# Altium footprint library CYP-PVX20_N.PcbLib: 1 footprints
Each footprint in its own frame and in the unit in brackets; x right, y up, seen from the top. Pads: shape width x height; smd on the part's side, far side on the other; paste and mask are expansions set on the pad; w line width, h text height; cw(c..) or ccw(c..) is an arc to the next point about the centre after c.
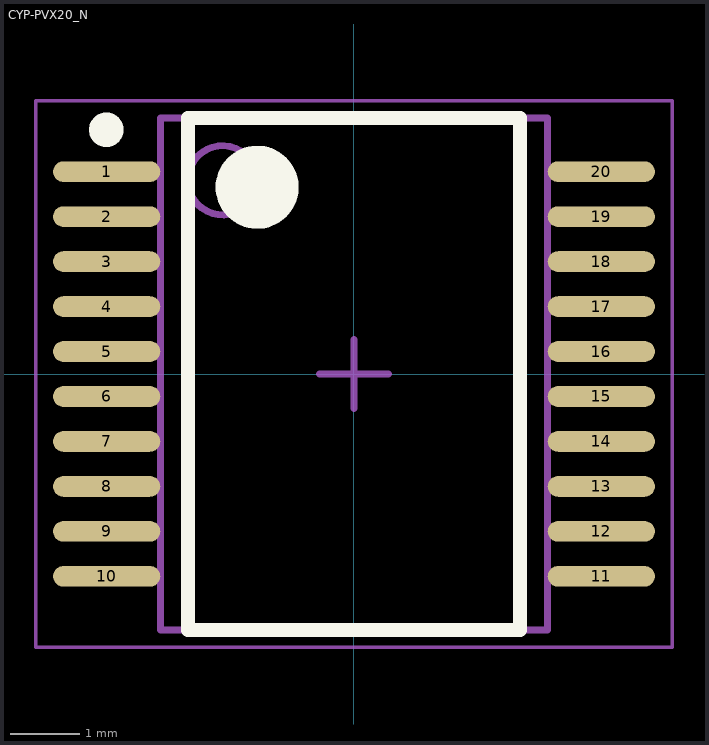
[diagram p0: the footprint, top view; thin cyan lines are the x and y axes]

## CYP-PVX20_N [mm] "SOP, 20-Leads, Body 7.2x5.3mm, Pitch 0.65mm, IPC Medium Density"
height 2
pads (20):
  oval 1.55x0.3 smd: 1(-3.575,2.925) 2(-3.575,2.275) 3(-3.575,1.625) 4(-3.575,0.975) 5(-3.575,0.325) 6(-3.575,-0.325) 7(-3.575,-0.975) 8(-3.575,-1.625) 9(-3.575,-2.275) 10(-3.575,-2.925) 11(3.575,-2.925) 12(3.575,-2.275) 13(3.575,-1.625) 14(3.575,-0.975) 15(3.575,-0.325) 16(3.575,0.325) 17(3.575,0.975) 18(3.575,1.625) 19(3.575,2.275) 20(3.575,2.925)
Top Overlay:
  circle w0.25: c-3.581,3.531 r0.125
  circle w0.6: c-1.4,2.7 r0.3
  lines w0.2: -2.4,-3.7 -2.4,3.7 2.4,3.7 2.4,-3.7 -2.4,-3.7
Mechanical 13:
  circle w0.1: c-1.9,2.8 r0.5
  lines w0.1: -2.8,-3.7 -2.8,3.7 2.8,3.7 2.8,-3.7 -2.8,-3.7
Mechanical 15:
  lines w0.05: -4.6,-3.95 -4.6,3.95 4.6,3.95 4.6,-3.95 -4.6,-3.95
  lines w0.1: -0.5,0 0.5,0 ; 0,-0.5 0,0.5
3D body: height 2, standoff 0.05, extent -2.8,-3.7 2.8,3.7